# Altium schematic symbol library Socket.Schlib: 1 symbol
Pins are listed as number, name and electrical type; pins without a type are passive.

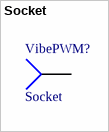
[diagram p0: symbol Socket]

## Socket
designator VibePWM?
pins: 1